# EAGLE library part BH1750FVI-TR (library _openSX70)
Light to Digital Ambient Light Sensor Digital O/P 1lux to 65535lux 6-Pin WSOF Embossed T/R
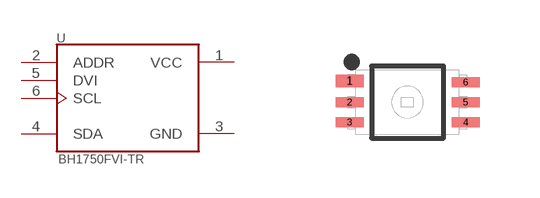
[diagram p34: symbol with the pads of SOTFL50P300X75-6N; footprint SOTFL50P300X75-6N]

Designator prefix U

## BH1750FVI-TR (AVAILABILITY: Good; DESCRIPTION: Light to Digital Ambient Light Sensor Digital O/P 1lux to 65535lux 6-Pin WSOF Embossed T/R; MF: Rohm; MP: BH1750FVI-TR; PACKAGE: SMD-6 Rohm; PRICE: 2.38 USD)  [SOTFL50P300X75-6N]
1  VCC  pwr
2  ADDR  in
3  GND  pwr
4  SDA
5  DVI  in
6  SCL  in

## Footprint SOTFL50P300X75-6N (pad centres in mm)
smd 0.702 x 0.3: 1 -1.451,0.525
smd 0.702 x 0.25: 2 -1.451,0; 3 -1.451,-0.5; 4 1.451,-0.5; 5 1.451,0; 6 1.451,0.5